# Altium schematic symbol library 14-pin-steering-con.SchLib: 1 symbol
Pins are listed as number, name and electrical type; pins without a type are passive.

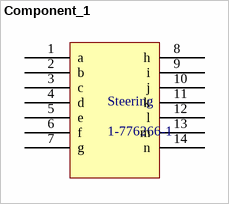
[diagram p0: symbol Component_1]

## Component_1
designator Steering, comment 1-776266-1
14 POS RIGHT ANGLE HEADER ASSY
footprint PCBComponent_1
pins: 1 a, 2 b, 3 c, 4 d, 5 e, 6 f, 7 g, 8 h, 9 i, 10 j, 11 k, 12 l, 13 m, 14 n